# Altium schematic symbol library IC_Microchip_MIC5219-3_3YM5-TR_eec.SchLib: 1 symbol
Pins are listed as number, name and electrical type; pins without a type are passive.

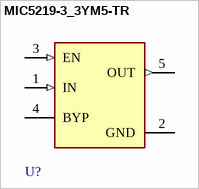
[diagram p0: symbol MIC5219-3_3YM5-TR]

## MIC5219-3_3YM5-TR
designator U?  (value not drawn)
pins: 1 IN (in), 2 GND (power), 3 EN (in), 4 BYP, 5 OUT (out)